# Altium schematic symbol library Batt_Linx_BAT-HLD-001_eec.SchLib: 1 symbol
Pins are listed as number, name and electrical type; pins without a type are passive.

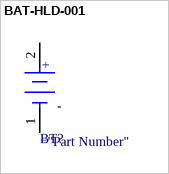
[diagram p0: symbol BAT-HLD-001]

## BAT-HLD-001
designator BT?  (value not drawn)
pins: 1 C, 2 A
text: +; -